# EAGLE library part MAX30100-SMD12 (library MAX30100)
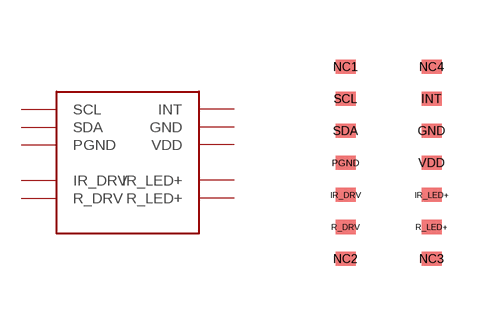
[diagram p0: symbol with the pads of MAX30100-SMD12; footprint MAX30100-SMD12]

Designator prefix -

## MAX30100-SMD12  [MAX30100-SMD12]
GND  GND
INT  INT
IR_DRV  IR_DRV
IR_LED+  IR_LED+
PGND  PGND
R_DRV  R_DRV
R_LED+  R_LED+
SCL  SCL
SDA  SDA
VDD  VDD

## Footprint MAX30100-SMD12 (pad centres in mm)
smd 0.5 x 0.35: GND 1.075,0.8; INT 1.075,1.6; IR_DRV -1.075,-0.8; IR_LED+ 1.075,-0.8; NC1 -1.075,2.4; NC2 -1.075,-2.4; NC3 1.075,-2.4; NC4 1.075,2.4; PGND -1.075,0; R_DRV -1.075,-1.6; R_LED+ 1.075,-1.6; SCL -1.075,1.6; SDA -1.075,0.8; VDD 1.075,0